# Altium footprint library TO-220.PcbLib: 1 footprints
Each footprint in its own frame and in the unit in brackets; x right, y up, seen from the top. Pads: shape width x height; smd on the part's side, far side on the other; paste and mask are expansions set on the pad; w line width, h text height; cw(c..) or ccw(c..) is an arc to the next point about the centre after c.
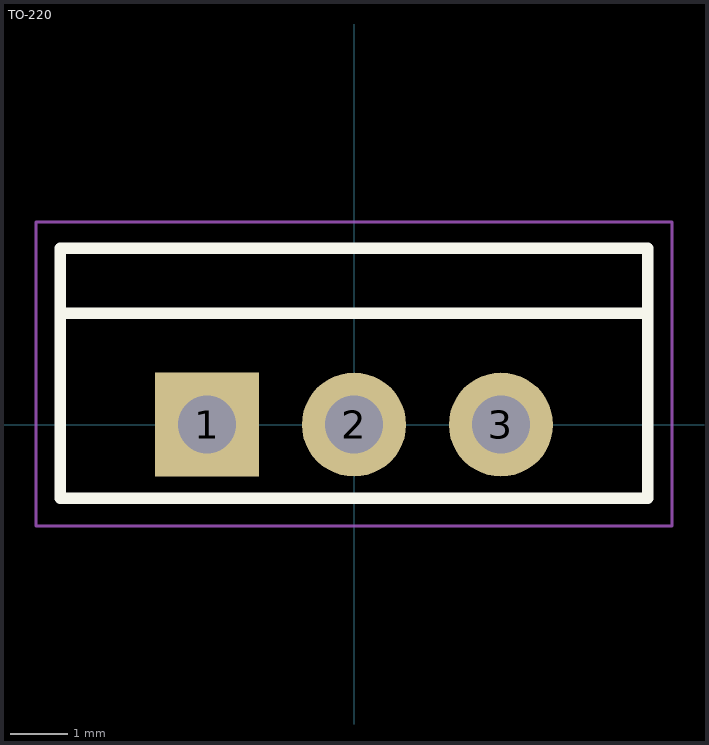
[diagram p0: the footprint, top view; thin cyan lines are the x and y axes]

## TO-220 [mm]
pads (3):
  rect 1.8x1.8 hole 1: 1(-2.54,0)
  round 1.8 hole 1: 2(0,0) 3(2.54,0)
Top Overlay:
  lines w0.2: -5.08,1.922 5.08,1.922 ; -5.08,-1.27 -5.08,3.048 5.08,3.048 5.08,-1.27 -5.08,-1.27
Top Assembly:
  lines w0.1: -5.08,1.922 5.08,1.922 ; -5.08,-1.27 -5.08,3.048 5.08,3.048 5.08,-1.27 -5.08,-1.27
Top Courtyard:
  lines w0.05: -5.5,-1.75 5.5,-1.75 5.5,3.5 -5.5,3.5 -5.5,-1.75
Top Designator:
  text ".Designator" at -7.498,0.516 h1.5
3D body "LM7805.STEP": height 19.5, standoff -10, extent -5.15,-1.352 5.15,3.048